# EAGLE library part IDC_CONN10 (library Connectors)
10PIN dual row male 2.54mm pitch IDC type connector Igor Odaikin, March 2020
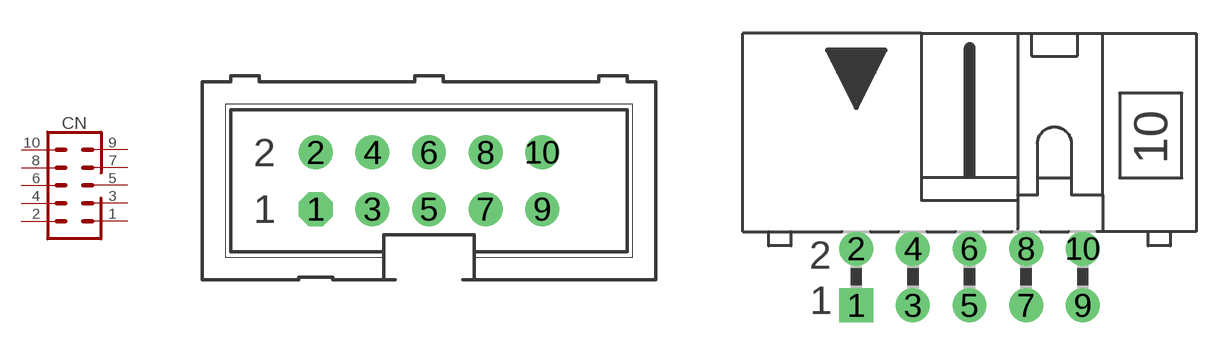
[diagram p33: symbol with the pads of IDC_2X05; footprints IDC_2X05, IDC-10MR]

Designator prefix CN

## IDC_CONN10-BH10 (MANF: Connfly electronic; MANF#: BH-10)  [IDC_2X05]
1  1  pas
2  2  pas
3  3  pas
4  4  pas
5  5  pas
6  6  pas
7  7  pas
8  8  pas
9  9  pas
10  10  pas

## IDC_CONN10-BH10R  [IDC-10MR]
Pads as for IDC_2X05

## Footprint IDC_2X05 (pad centres in mm)
drill 0.914 pad 1.524 octagon: 1 -5.08,-1.27
drill 0.914 pad 1.524: 2 -5.08,1.27; 3 -2.54,-1.27; 4 -2.54,1.27; 5 0,-1.27; 6 0,1.27; 7 2.54,-1.27; 8 2.54,1.27; 9 5.08,-1.27; 10 5.08,1.27

## Footprint IDC-10MR (pad centres in mm)
drill 0.914 pad 1.524 square: 1 -5.08,-1.27
drill 0.914 pad 1.524: 2 -5.08,1.27; 3 -2.54,-1.27; 4 -2.54,1.27; 5 0,-1.27; 6 0,1.27; 7 2.54,-1.27; 8 2.54,1.27; 9 5.08,-1.27; 10 5.08,1.27